# Altium integrated library Linear Technology Power Management System Supervisor, Monitor and Control.IntLib: 1611 symbols (part 2 of 100)
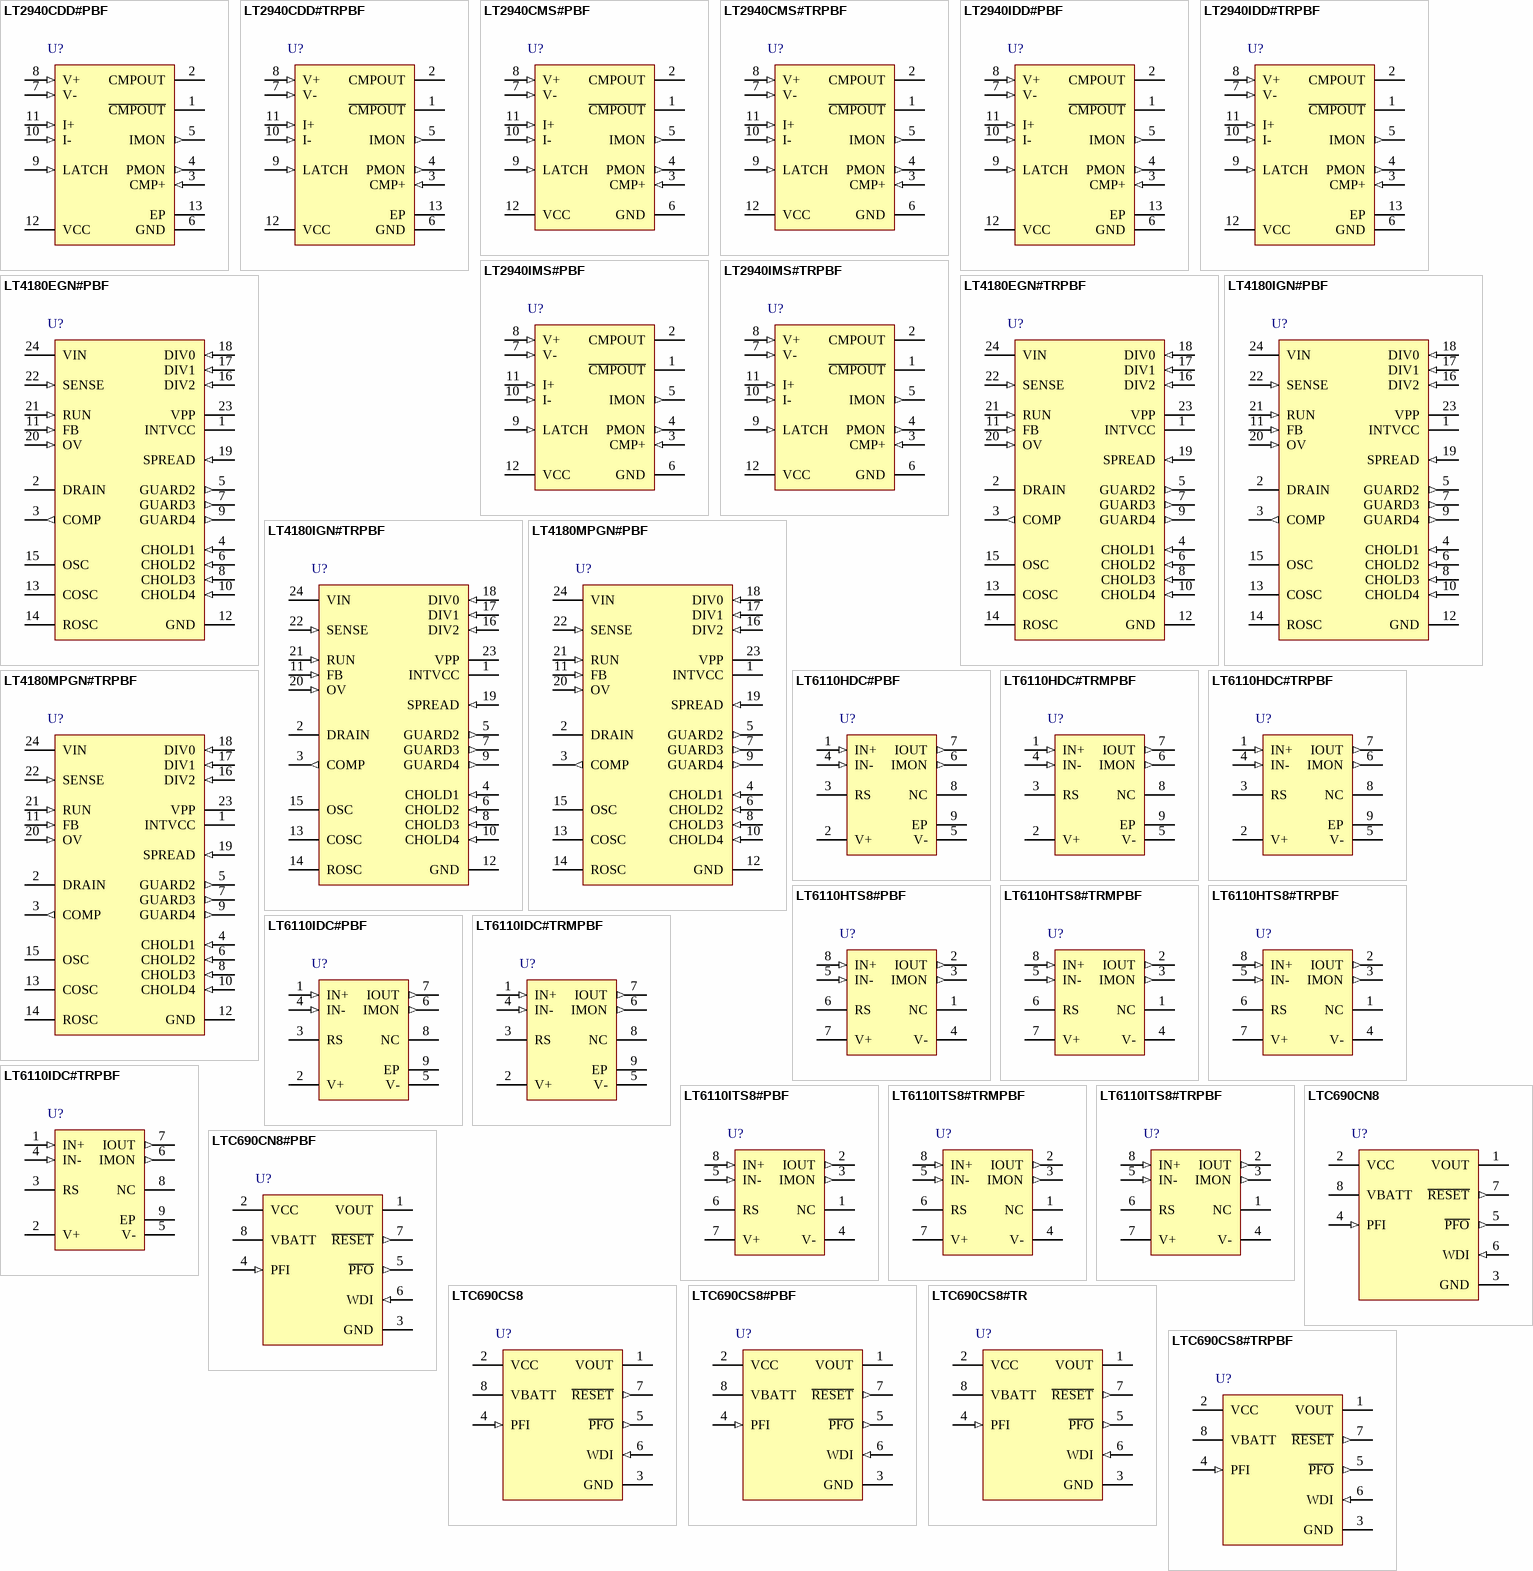
[diagram p46: symbols LT2940CDD#PBF to LTC690CS8#TRPBF]

## LT4180MPGN#PBF
designator U?
Virtual Remote Sense Controller, 24-pin SOP (GN24), -55 to 125 degC, Pb-Free; Manufacturer: Linear Technology; PartNumber: LT4180MPGN#PBF; Number of Supplies(#): 1; DatasheetVersion: Rev. B; PackageVersion: Rev. B, 03/2012; PackageReference: GN24; PackageDescription: 24-Pin Plastic SSOP , Body 8.5 x 3.9 mm, Pitch 0.635 mm; Supplier 1: Digi-Key; Supplier Part Number 1: LT4180MPGN#PBF-ND; Supplier 2: Farnell; Supplier Part Number 2: 1839078; Supplier 3: Newark; Supplier Part Number 3: 74R1378; RoHS: TRUE; Mounting Technology: Surface Mount; ComponentLink1Description: Manufacturer URL; ComponentLink1URL: http://www.linear.com/; ComponentLink2Description: Datasheet; ComponentLink2URL: http://cds.linear.com/docs/en/datasheet/4180fb.pdf; ComponentLink3Description: Package Specification; ComponentLink3URL: http://cds.linear.com/docs/en/packaging/05081641_B_GN24.pdf
footprint LT-GN-24_N (SOP, 24-Leads, Body 8.7x4mm, Pitch 0.635mm, IPC Medium Density)
footprint LT-GN-24_L (SOP, 24-Leads, Body 8.7x4mm, Pitch 0.635mm, IPC High Density)
footprint LT-GN-24_M (SOP, 24-Leads, Body 8.7x4mm, Pitch 0.635mm, IPC Low Density)
pins: 1 INTVCC (power) "The LDO Output. A low ESR ceramic capacitor provides decoupling and output compensation. 1uF or more should be used.", 2 DRAIN (oc) "Open-Drain of the Output Transistor. This pin drives either the LED in an opto-isolator, or pulls down on the regulator control pin.", 3 COMP (out) "Gate of the Output Transistor. This pin allows additional compensation. It must be left open if unused.", 4 CHOLD1 (in) "Connects to track/hold amplifier hold capacitor. The other end of this capacitor should be Kelvin connected to GND.", 5 GUARD2 (out) "Guard Ring Drive for CHOLD2.", 6 CHOLD2 (in) "Connects to track/hold amplifier hold capacitor. The other end of this capacitor should be Kelvin connected to GND.", 7 GUARD3 (out) "Guard Ring Drive for CHOLD3.", 8 CHOLD3 (in) "Connects to track/hold amplifier hold capacitor. The other end of this capacitor should be Kelvin connected to GND.", 9 GUARD4 (out) "Guard Ring Drive for CHOLD4.", 10 CHOLD4 (in) "Connects to track/hold amplifier hold capacitor. The other end of this capacitor should be Kelvin connected to GND.", 11 FB (in) "Receives the feedback voltage from an external resistor divider across the main output. An (optional) capacitor to ground may be added to eliminate high frequency noise. The time constant for this RC network should be no (See Datasheet)", 12 GND (power) "Ground.", 13 COSC "Oscillator Timing Capacitor. Oscillator frequency is set by this capacitor and ROSC. For best accuracy, the minimum recommended capacitance is 100pF.", 14 ROSC "Oscillator Timing Resistor. Oscillator frequency is set by this resistor and COSC.", 15 OSC "Oscillator Output. This output may be used to synchronize the switching regulator to the Virtual Remote Sense. This is a high current output capable of driving opto-isolators. Other isolation methods may also be used with (See Datasheet)", 16 DIV2 (in) "Dither Division Ratio Programming Pin.", 17 DIV1 (in) "Dither Division Ratio Programming Pin.", 18 DIV0 (in) "Dither Division Ratio Programming Pin.", 19 SPREAD (in) "Spread Spectrum Enable Input. Dither phasing is pseudo-randomly adjusted when SPREAD is tied high.", 20 OV (in) "Overvoltage Comparator Input. This prevents line drop correction when wiring drops would cause excessive switching power supply output voltage. Set OV so VREG(MAX) =< 1.50VLOAD.", 21 RUN (in) "The RUN pin provides the user with an accurate means for sensing the input voltage and programming the start-up threshold for the line drop corrector.", 22 SENSE (in) "Current Sense Input. This input connects to the current sense resistor. Kelvin connect to RSENSE.", 23 VPP (power) "Connect this pin to INTVCC.", 24 VIN (power) "Main Supply Pin. VIN must be locally bypassed to ground. Kelvin connect the current sense resistor to this pin and minimize interconnect resistance."

## LT4180MPGN#TRPBF
designator U?
Virtual Remote Sense Controller, 24-pin SOP (GN24), -55 to 125 degC, Pb-Free, Tape and Reel; Manufacturer: Linear Technology; PartNumber: LT4180MPGN#TRPBF; Number of Supplies(#): 1; DatasheetVersion: Rev. B; PackageVersion: Rev. B, 03/2012; PackageReference: GN24; PackageDescription: 24-Pin Plastic SSOP , Body 8.5 x 3.9 mm, Pitch 0.635 mm; Supplier 1: Digi-Key; Supplier Part Number 1: LT4180MPGN#TRPBF-ND; Packing: Tape and Reel; RoHS: TRUE; Mounting Technology: Surface Mount; ComponentLink1Description: Manufacturer URL; ComponentLink1URL: http://www.linear.com/; ComponentLink2Description: Datasheet; ComponentLink2URL: http://cds.linear.com/docs/en/datasheet/4180fb.pdf; ComponentLink3Description: Package Specification; ComponentLink3URL: http://cds.linear.com/docs/en/packaging/05081641_B_GN24.pdf
footprint LT-GN-24_N (SOP, 24-Leads, Body 8.7x4mm, Pitch 0.635mm, IPC Medium Density)
footprint LT-GN-24_L (SOP, 24-Leads, Body 8.7x4mm, Pitch 0.635mm, IPC High Density)
footprint LT-GN-24_M (SOP, 24-Leads, Body 8.7x4mm, Pitch 0.635mm, IPC Low Density)
pins: 1 INTVCC (power) "The LDO Output. A low ESR ceramic capacitor provides decoupling and output compensation. 1uF or more should be used.", 2 DRAIN (oc) "Open-Drain of the Output Transistor. This pin drives either the LED in an opto-isolator, or pulls down on the regulator control pin.", 3 COMP (out) "Gate of the Output Transistor. This pin allows additional compensation. It must be left open if unused.", 4 CHOLD1 (in) "Connects to track/hold amplifier hold capacitor. The other end of this capacitor should be Kelvin connected to GND.", 5 GUARD2 (out) "Guard Ring Drive for CHOLD2.", 6 CHOLD2 (in) "Connects to track/hold amplifier hold capacitor. The other end of this capacitor should be Kelvin connected to GND.", 7 GUARD3 (out) "Guard Ring Drive for CHOLD3.", 8 CHOLD3 (in) "Connects to track/hold amplifier hold capacitor. The other end of this capacitor should be Kelvin connected to GND.", 9 GUARD4 (out) "Guard Ring Drive for CHOLD4.", 10 CHOLD4 (in) "Connects to track/hold amplifier hold capacitor. The other end of this capacitor should be Kelvin connected to GND.", 11 FB (in) "Receives the feedback voltage from an external resistor divider across the main output. An (optional) capacitor to ground may be added to eliminate high frequency noise. The time constant for this RC network should be no (See Datasheet)", 12 GND (power) "Ground.", 13 COSC "Oscillator Timing Capacitor. Oscillator frequency is set by this capacitor and ROSC. For best accuracy, the minimum recommended capacitance is 100pF.", 14 ROSC "Oscillator Timing Resistor. Oscillator frequency is set by this resistor and COSC.", 15 OSC "Oscillator Output. This output may be used to synchronize the switching regulator to the Virtual Remote Sense. This is a high current output capable of driving opto-isolators. Other isolation methods may also be used with (See Datasheet)", 16 DIV2 (in) "Dither Division Ratio Programming Pin.", 17 DIV1 (in) "Dither Division Ratio Programming Pin.", 18 DIV0 (in) "Dither Division Ratio Programming Pin.", 19 SPREAD (in) "Spread Spectrum Enable Input. Dither phasing is pseudo-randomly adjusted when SPREAD is tied high.", 20 OV (in) "Overvoltage Comparator Input. This prevents line drop correction when wiring drops would cause excessive switching power supply output voltage. Set OV so VREG(MAX) =< 1.50VLOAD.", 21 RUN (in) "The RUN pin provides the user with an accurate means for sensing the input voltage and programming the start-up threshold for the line drop corrector.", 22 SENSE (in) "Current Sense Input. This input connects to the current sense resistor. Kelvin connect to RSENSE.", 23 VPP (power) "Connect this pin to INTVCC.", 24 VIN (power) "Main Supply Pin. VIN must be locally bypassed to ground. Kelvin connect the current sense resistor to this pin and minimize interconnect resistance."

## LT6110HDC#PBF
designator U?
Cable / Wire Drop Compensator, 8-pin SON (DC8-8), -40 to 125 degC, Pb-Free; Manufacturer: Linear Technology; PartNumber: LT6110HDC#PBF; Number of Supplies(#): 1; PackageVersion: Rev. A, 06/2010; PackageReference: DC8-8; PackageDescription: 8-Pin Plastic DFN, Body 2 x 2 mm, Pitch 0.45 mm; RoHS: TRUE; Mounting Technology: Surface Mount; ComponentLink1Description: Manufacturer URL; ComponentLink1URL: http://www.linear.com/; ComponentLink2Description: Datasheet; ComponentLink2URL: http://cds.linear.com/docs/en/datasheet/6110f.pdf; ComponentLink3Description: Package Specification; ComponentLink3URL: http://www.linear.com/docs/en/packaging/DFN_8_05-08-1719.pdf
footprint LT-DC8-8_V (SON, 8-Leads, Body 2x2mm, Pitch 0.45mm, Thermal Pad 1.37x0.64mm)
pins: 1 IN+ (in) "Positive Input to the Internal Sense Amplifier. The internal sense amplifier will drive +IN to the same potential as -IN. A resistor, R+IN, tied from V+ to +IN sets the IOUT and IMON output currents as defined in the the (See Datasheet)", 2 V+ (power) "Positive Power Supply. Connect to the more positive side of the sense resistor. A minimum capacitance of 0.1uF is required from V+ to V-.", 3 RS "Internal Sense Resistor. Connect to the load to use. Leave open when using an external sense resistor.", 4 IN- (in) "Negative Input to the Internal Sense Amplifier. Must be tied to system load side of the sense resistor, either directly or through a resistor.", 5 V- (power) "Negative Power Supply. Normally connected to ground.", 6 IMON (out) "Sourcing Current Output. IMON will source a current that is equal to 3xVSENSE/RIN.", 7 IOUT (out) "Sinking Current Output. IOUT will sink a current that is equal to VSENSE/RIN. VSENSE is the voltage developed across the sense resisor.", 8 NC "Not Internally Connected.", 9 EP (power) "V-. Must be soldered to the PCB."

## LT6110HDC#TRMPBF
designator U?
Cable / Wire Drop Compensator, 8-pin SON (DC8-8), -40 to 125 degC, Pb-Free, Mini Tape and Reel; Manufacturer: Linear Technology; PartNumber: LT6110HDC#TRMPBF; Number of Supplies(#): 1; PackageVersion: Rev. A, 06/2010; PackageReference: DC8-8; PackageDescription: 8-Pin Plastic DFN, Body 2 x 2 mm, Pitch 0.45 mm; Supplier 1: Digi-Key; Supplier Part Number 1: LT6110HDC#TRMPBFTR-ND; Supplier 2: Digi-Key; Supplier Part Number 2: LT6110HDC#TRMPBFCT-ND; Supplier 3: Digi-Key; Supplier Part Number 3: LT6110HDC#TRMPBFDKR-ND; Supplier 4: Farnell; Supplier Part Number 4: 2322383; Supplier 5: Newark; Supplier Part Number 5: 71W8573; Supplier 6: Newark; Supplier Part Number 6: 87W6209; Packing: Mini Tape and Reel; RoHS: TRUE; Mounting Technology: Surface Mount; ComponentLink1Description: Manufacturer URL; ComponentLink1URL: http://www.linear.com/; ComponentLink2Description: Datasheet; ComponentLink2URL: http://cds.linear.com/docs/en/datasheet/6110f.pdf; ComponentLink3Description: Package Specification; ComponentLink3URL: http://www.linear.com/docs/en/packaging/DFN_8_05-08-1719.pdf
footprint LT-DC8-8_V (SON, 8-Leads, Body 2x2mm, Pitch 0.45mm, Thermal Pad 1.37x0.64mm)
pins: 1 IN+ (in) "Positive Input to the Internal Sense Amplifier. The internal sense amplifier will drive +IN to the same potential as -IN. A resistor, R+IN, tied from V+ to +IN sets the IOUT and IMON output currents as defined in the the (See Datasheet)", 2 V+ (power) "Positive Power Supply. Connect to the more positive side of the sense resistor. A minimum capacitance of 0.1uF is required from V+ to V-.", 3 RS "Internal Sense Resistor. Connect to the load to use. Leave open when using an external sense resistor.", 4 IN- (in) "Negative Input to the Internal Sense Amplifier. Must be tied to system load side of the sense resistor, either directly or through a resistor.", 5 V- (power) "Negative Power Supply. Normally connected to ground.", 6 IMON (out) "Sourcing Current Output. IMON will source a current that is equal to 3xVSENSE/RIN.", 7 IOUT (out) "Sinking Current Output. IOUT will sink a current that is equal to VSENSE/RIN. VSENSE is the voltage developed across the sense resisor.", 8 NC "Not Internally Connected.", 9 EP (power) "V-. Must be soldered to the PCB."

## LT6110HDC#TRPBF
designator U?
Cable / Wire Drop Compensator, 8-pin SON (DC8-8), -40 to 125 degC, Pb-Free, Tape and Reel; Manufacturer: Linear Technology; PartNumber: LT6110HDC#TRPBF; Number of Supplies(#): 1; PackageVersion: Rev. A, 06/2010; PackageReference: DC8-8; PackageDescription: 8-Pin Plastic DFN, Body 2 x 2 mm, Pitch 0.45 mm; Supplier 1: Digi-Key; Supplier Part Number 1: LT6110HDC#TRPBF-ND; Supplier 2: Newark; Supplier Part Number 2: 71W8574; Supplier 3: Newark; Supplier Part Number 3: 87W6210; Packing: Tape and Reel; RoHS: TRUE; Mounting Technology: Surface Mount; ComponentLink1Description: Manufacturer URL; ComponentLink1URL: http://www.linear.com/; ComponentLink2Description: Datasheet; ComponentLink2URL: http://cds.linear.com/docs/en/datasheet/6110f.pdf; ComponentLink3Description: Package Specification; ComponentLink3URL: http://www.linear.com/docs/en/packaging/DFN_8_05-08-1719.pdf
footprint LT-DC8-8_V (SON, 8-Leads, Body 2x2mm, Pitch 0.45mm, Thermal Pad 1.37x0.64mm)
pins: 1 IN+ (in) "Positive Input to the Internal Sense Amplifier. The internal sense amplifier will drive +IN to the same potential as -IN. A resistor, R+IN, tied from V+ to +IN sets the IOUT and IMON output currents as defined in the the (See Datasheet)", 2 V+ (power) "Positive Power Supply. Connect to the more positive side of the sense resistor. A minimum capacitance of 0.1uF is required from V+ to V-.", 3 RS "Internal Sense Resistor. Connect to the load to use. Leave open when using an external sense resistor.", 4 IN- (in) "Negative Input to the Internal Sense Amplifier. Must be tied to system load side of the sense resistor, either directly or through a resistor.", 5 V- (power) "Negative Power Supply. Normally connected to ground.", 6 IMON (out) "Sourcing Current Output. IMON will source a current that is equal to 3xVSENSE/RIN.", 7 IOUT (out) "Sinking Current Output. IOUT will sink a current that is equal to VSENSE/RIN. VSENSE is the voltage developed across the sense resisor.", 8 NC "Not Internally Connected.", 9 EP (power) "V-. Must be soldered to the PCB."

## LT6110HTS8#PBF
designator U?
Cable / Wire Drop Compensator, 8-pin SOT23 (TS8-8), -40 to 125 degC, Pb-Free; Manufacturer: Linear Technology; PartNumber: LT6110HTS8#PBF; Number of Supplies(#): 1; PackageVersion: Rev. A, 08/2010; PackageReference: TS8-8; PackageDescription: 8-Pin Plastic TSOT-23, Body 2.9 x 1.63 mm, Pitch 0.65 mm; RoHS: TRUE; Mounting Technology: Surface Mount; Code_JEDEC: MO-193; ComponentLink1Description: Manufacturer URL; ComponentLink1URL: http://www.linear.com/; ComponentLink2Description: Datasheet; ComponentLink2URL: http://cds.linear.com/docs/en/datasheet/6110f.pdf; ComponentLink3Description: Package Specification; ComponentLink3URL: http://cds.linear.com/docs/en/packaging/SOT_8_05-08-1637.pdf
footprint LT-TS8-8-TSOT-23_V (SOT23, 8-Leads, Body 2.9x1.75mm, Pitch 0.65mm)
pins: 1 NC "Not Internally Connected.", 2 IOUT (out) "Sinking Current Output. IOUT will sink a current that is equal to VSENSE/RIN. VSENSE is the voltage developed across the sense resisor.", 3 IMON (out) "Sourcing Current Output. IMON will source a current that is equal to 3xVSENSE/RIN.", 4 V- (power) "Negative Power Supply. Normally connected to ground.", 5 IN- (in) "Negative Input to the Internal Sense Amplifier. Must be tied to system load side of the sense resistor, either directly or through a resistor.", 6 RS "Internal Sense Resistor. Connect to the load to use. Leave open when using an external sense resistor.", 7 V+ (power) "Positive Power Supply. Connect to the more positive side of the sense resistor. A minimum capacitance of 0.1uF is required from V+ to V-.", 8 IN+ (in) "Positive Input to the Internal Sense Amplifier. The internal sense amplifier will drive +IN to the same potential as -IN. A resistor, R+IN, tied from V+ to +IN sets the IOUT and IMON output currents as defined in the the (See Datasheet)"

## LT6110HTS8#TRMPBF
designator U?
Cable / Wire Drop Compensator, 8-pin SOT23 (TS8-8), -40 to 125 degC, Pb-Free, Mini Tape and Reel; Manufacturer: Linear Technology; PartNumber: LT6110HTS8#TRMPBF; Number of Supplies(#): 1; PackageVersion: Rev. A, 08/2010; PackageReference: TS8-8; PackageDescription: 8-Pin Plastic TSOT-23, Body 2.9 x 1.63 mm, Pitch 0.65 mm; Supplier 1: Digi-Key; Supplier Part Number 1: LT6110HTS8#TRMPBFTR-ND; Supplier 2: Digi-Key; Supplier Part Number 2: LT6110HTS8#TRMPBFCT-ND; Supplier 3: Digi-Key; Supplier Part Number 3: LT6110HTS8#TRMPBFDKR-ND; Supplier 4: Farnell; Supplier Part Number 4: 2322384; Supplier 5: Newark; Supplier Part Number 5: 71W8575; Supplier 6: Newark; Supplier Part Number 6: 87W6211; Packing: Mini Tape and Reel; RoHS: TRUE; Mounting Technology: Surface Mount; Code_JEDEC: MO-193; ComponentLink1Description: Manufacturer URL; ComponentLink1URL: http://www.linear.com/; ComponentLink2Description: Datasheet; ComponentLink2URL: http://cds.linear.com/docs/en/datasheet/6110f.pdf; ComponentLink3Description: Package Specification; ComponentLink3URL: http://cds.linear.com/docs/en/packaging/SOT_8_05-08-1637.pdf
footprint LT-TS8-8-TSOT-23_V (SOT23, 8-Leads, Body 2.9x1.75mm, Pitch 0.65mm)
pins: 1 NC "Not Internally Connected.", 2 IOUT (out) "Sinking Current Output. IOUT will sink a current that is equal to VSENSE/RIN. VSENSE is the voltage developed across the sense resisor.", 3 IMON (out) "Sourcing Current Output. IMON will source a current that is equal to 3xVSENSE/RIN.", 4 V- (power) "Negative Power Supply. Normally connected to ground.", 5 IN- (in) "Negative Input to the Internal Sense Amplifier. Must be tied to system load side of the sense resistor, either directly or through a resistor.", 6 RS "Internal Sense Resistor. Connect to the load to use. Leave open when using an external sense resistor.", 7 V+ (power) "Positive Power Supply. Connect to the more positive side of the sense resistor. A minimum capacitance of 0.1uF is required from V+ to V-.", 8 IN+ (in) "Positive Input to the Internal Sense Amplifier. The internal sense amplifier will drive +IN to the same potential as -IN. A resistor, R+IN, tied from V+ to +IN sets the IOUT and IMON output currents as defined in the the (See Datasheet)"

## LT6110HTS8#TRPBF
designator U?
Cable / Wire Drop Compensator, 8-pin SOT23 (TS8-8), -40 to 125 degC, Pb-Free, Tape and Reel; Manufacturer: Linear Technology; PartNumber: LT6110HTS8#TRPBF; Number of Supplies(#): 1; PackageVersion: Rev. A, 08/2010; PackageReference: TS8-8; PackageDescription: 8-Pin Plastic TSOT-23, Body 2.9 x 1.63 mm, Pitch 0.65 mm; Supplier 1: Digi-Key; Supplier Part Number 1: LT6110HTS8#TRPBF-ND; Supplier 2: Newark; Supplier Part Number 2: 87W6212; Supplier 3: Newark; Supplier Part Number 3: 71W8576; Packing: Tape and Reel; RoHS: TRUE; Mounting Technology: Surface Mount; Code_JEDEC: MO-193; ComponentLink1Description: Manufacturer URL; ComponentLink1URL: http://www.linear.com/; ComponentLink2Description: Datasheet; ComponentLink2URL: http://cds.linear.com/docs/en/datasheet/6110f.pdf; ComponentLink3Description: Package Specification; ComponentLink3URL: http://cds.linear.com/docs/en/packaging/SOT_8_05-08-1637.pdf
footprint LT-TS8-8-TSOT-23_V (SOT23, 8-Leads, Body 2.9x1.75mm, Pitch 0.65mm)
pins: 1 NC "Not Internally Connected.", 2 IOUT (out) "Sinking Current Output. IOUT will sink a current that is equal to VSENSE/RIN. VSENSE is the voltage developed across the sense resisor.", 3 IMON (out) "Sourcing Current Output. IMON will source a current that is equal to 3xVSENSE/RIN.", 4 V- (power) "Negative Power Supply. Normally connected to ground.", 5 IN- (in) "Negative Input to the Internal Sense Amplifier. Must be tied to system load side of the sense resistor, either directly or through a resistor.", 6 RS "Internal Sense Resistor. Connect to the load to use. Leave open when using an external sense resistor.", 7 V+ (power) "Positive Power Supply. Connect to the more positive side of the sense resistor. A minimum capacitance of 0.1uF is required from V+ to V-.", 8 IN+ (in) "Positive Input to the Internal Sense Amplifier. The internal sense amplifier will drive +IN to the same potential as -IN. A resistor, R+IN, tied from V+ to +IN sets the IOUT and IMON output currents as defined in the the (See Datasheet)"

## LT6110IDC#PBF
designator U?
Cable / Wire Drop Compensator, 8-pin SON (DC8-8), -40 to 85 degC, Pb-Free; Manufacturer: Linear Technology; PartNumber: LT6110IDC#PBF; Number of Supplies(#): 1; PackageVersion: Rev. A, 06/2010; PackageReference: DC8-8; PackageDescription: 8-Pin Plastic DFN, Body 2 x 2 mm, Pitch 0.45 mm; RoHS: TRUE; Mounting Technology: Surface Mount; ComponentLink1Description: Manufacturer URL; ComponentLink1URL: http://www.linear.com/; ComponentLink2Description: Datasheet; ComponentLink2URL: http://cds.linear.com/docs/en/datasheet/6110f.pdf; ComponentLink3Description: Package Specification; ComponentLink3URL: http://www.linear.com/docs/en/packaging/DFN_8_05-08-1719.pdf
footprint LT-DC8-8_V (SON, 8-Leads, Body 2x2mm, Pitch 0.45mm, Thermal Pad 1.37x0.64mm)
pins: 1 IN+ (in) "Positive Input to the Internal Sense Amplifier. The internal sense amplifier will drive +IN to the same potential as -IN. A resistor, R+IN, tied from V+ to +IN sets the IOUT and IMON output currents as defined in the the (See Datasheet)", 2 V+ (power) "Positive Power Supply. Connect to the more positive side of the sense resistor. A minimum capacitance of 0.1uF is required from V+ to V-.", 3 RS "Internal Sense Resistor. Connect to the load to use. Leave open when using an external sense resistor.", 4 IN- (in) "Negative Input to the Internal Sense Amplifier. Must be tied to system load side of the sense resistor, either directly or through a resistor.", 5 V- (power) "Negative Power Supply. Normally connected to ground.", 6 IMON (out) "Sourcing Current Output. IMON will source a current that is equal to 3xVSENSE/RIN.", 7 IOUT (out) "Sinking Current Output. IOUT will sink a current that is equal to VSENSE/RIN. VSENSE is the voltage developed across the sense resisor.", 8 NC "Not Internally Connected.", 9 EP (power) "V-. Must be soldered to the PCB."

## LT6110IDC#TRMPBF
designator U?
Cable / Wire Drop Compensator, 8-pin SON (DC8-8), -40 to 85 degC, Pb-Free, Mini Tape and Reel; Manufacturer: Linear Technology; PartNumber: LT6110IDC#TRMPBF; Number of Supplies(#): 1; PackageVersion: Rev. A, 06/2010; PackageReference: DC8-8; PackageDescription: 8-Pin Plastic DFN, Body 2 x 2 mm, Pitch 0.45 mm; Supplier 1: Digi-Key; Supplier Part Number 1: LT6110IDC#TRMPBFTR-ND; Supplier 2: Digi-Key; Supplier Part Number 2: LT6110IDC#TRMPBFCT-ND; Supplier 3: Digi-Key; Supplier Part Number 3: LT6110IDC#TRMPBFDKR-ND; Supplier 4: Farnell; Supplier Part Number 4: 2322385; Supplier 5: Newark; Supplier Part Number 5: 87W6213; Supplier 6: Newark; Supplier Part Number 6: 71W8577; Packing: Mini Tape and Reel; RoHS: TRUE; Mounting Technology: Surface Mount; ComponentLink1Description: Manufacturer URL; ComponentLink1URL: http://www.linear.com/; ComponentLink2Description: Datasheet; ComponentLink2URL: http://cds.linear.com/docs/en/datasheet/6110f.pdf; ComponentLink3Description: Package Specification; ComponentLink3URL: http://www.linear.com/docs/en/packaging/DFN_8_05-08-1719.pdf
footprint LT-DC8-8_V (SON, 8-Leads, Body 2x2mm, Pitch 0.45mm, Thermal Pad 1.37x0.64mm)
pins: 1 IN+ (in) "Positive Input to the Internal Sense Amplifier. The internal sense amplifier will drive +IN to the same potential as -IN. A resistor, R+IN, tied from V+ to +IN sets the IOUT and IMON output currents as defined in the the (See Datasheet)", 2 V+ (power) "Positive Power Supply. Connect to the more positive side of the sense resistor. A minimum capacitance of 0.1uF is required from V+ to V-.", 3 RS "Internal Sense Resistor. Connect to the load to use. Leave open when using an external sense resistor.", 4 IN- (in) "Negative Input to the Internal Sense Amplifier. Must be tied to system load side of the sense resistor, either directly or through a resistor.", 5 V- (power) "Negative Power Supply. Normally connected to ground.", 6 IMON (out) "Sourcing Current Output. IMON will source a current that is equal to 3xVSENSE/RIN.", 7 IOUT (out) "Sinking Current Output. IOUT will sink a current that is equal to VSENSE/RIN. VSENSE is the voltage developed across the sense resisor.", 8 NC "Not Internally Connected.", 9 EP (power) "V-. Must be soldered to the PCB."

## LT6110IDC#TRPBF
designator U?
Cable / Wire Drop Compensator, 8-pin SON (DC8-8), -40 to 85 degC, Pb-Free, Tape and Reel; Manufacturer: Linear Technology; PartNumber: LT6110IDC#TRPBF; Number of Supplies(#): 1; PackageVersion: Rev. A, 06/2010; PackageReference: DC8-8; PackageDescription: 8-Pin Plastic DFN, Body 2 x 2 mm, Pitch 0.45 mm; Supplier 1: Digi-Key; Supplier Part Number 1: LT6110IDC#TRPBF-ND; Supplier 2: Newark; Supplier Part Number 2: 87W6214; Supplier 3: Newark; Supplier Part Number 3: 71W8578; Packing: Tape and Reel; RoHS: TRUE; Mounting Technology: Surface Mount; ComponentLink1Description: Manufacturer URL; ComponentLink1URL: http://www.linear.com/; ComponentLink2Description: Datasheet; ComponentLink2URL: http://cds.linear.com/docs/en/datasheet/6110f.pdf; ComponentLink3Description: Package Specification; ComponentLink3URL: http://www.linear.com/docs/en/packaging/DFN_8_05-08-1719.pdf
footprint LT-DC8-8_V (SON, 8-Leads, Body 2x2mm, Pitch 0.45mm, Thermal Pad 1.37x0.64mm)
pins: 1 IN+ (in) "Positive Input to the Internal Sense Amplifier. The internal sense amplifier will drive +IN to the same potential as -IN. A resistor, R+IN, tied from V+ to +IN sets the IOUT and IMON output currents as defined in the the (See Datasheet)", 2 V+ (power) "Positive Power Supply. Connect to the more positive side of the sense resistor. A minimum capacitance of 0.1uF is required from V+ to V-.", 3 RS "Internal Sense Resistor. Connect to the load to use. Leave open when using an external sense resistor.", 4 IN- (in) "Negative Input to the Internal Sense Amplifier. Must be tied to system load side of the sense resistor, either directly or through a resistor.", 5 V- (power) "Negative Power Supply. Normally connected to ground.", 6 IMON (out) "Sourcing Current Output. IMON will source a current that is equal to 3xVSENSE/RIN.", 7 IOUT (out) "Sinking Current Output. IOUT will sink a current that is equal to VSENSE/RIN. VSENSE is the voltage developed across the sense resisor.", 8 NC "Not Internally Connected.", 9 EP (power) "V-. Must be soldered to the PCB."

## LT6110ITS8#PBF
designator U?
Cable / Wire Drop Compensator, 8-pin SOT23 (TS8-8), -40 to 85 degC, Pb-Free; Manufacturer: Linear Technology; PartNumber: LT6110ITS8#PBF; Number of Supplies(#): 1; PackageVersion: Rev. A, 08/2010; PackageReference: TS8-8; PackageDescription: 8-Pin Plastic TSOT-23, Body 2.9 x 1.63 mm, Pitch 0.65 mm; RoHS: TRUE; Mounting Technology: Surface Mount; Code_JEDEC: MO-193; ComponentLink1Description: Manufacturer URL; ComponentLink1URL: http://www.linear.com/; ComponentLink2Description: Datasheet; ComponentLink2URL: http://cds.linear.com/docs/en/datasheet/6110f.pdf; ComponentLink3Description: Package Specification; ComponentLink3URL: http://cds.linear.com/docs/en/packaging/SOT_8_05-08-1637.pdf
footprint LT-TS8-8-TSOT-23_V (SOT23, 8-Leads, Body 2.9x1.75mm, Pitch 0.65mm)
pins: 1 NC "Not Internally Connected.", 2 IOUT (out) "Sinking Current Output. IOUT will sink a current that is equal to VSENSE/RIN. VSENSE is the voltage developed across the sense resisor.", 3 IMON (out) "Sourcing Current Output. IMON will source a current that is equal to 3xVSENSE/RIN.", 4 V- (power) "Negative Power Supply. Normally connected to ground.", 5 IN- (in) "Negative Input to the Internal Sense Amplifier. Must be tied to system load side of the sense resistor, either directly or through a resistor.", 6 RS "Internal Sense Resistor. Connect to the load to use. Leave open when using an external sense resistor.", 7 V+ (power) "Positive Power Supply. Connect to the more positive side of the sense resistor. A minimum capacitance of 0.1uF is required from V+ to V-.", 8 IN+ (in) "Positive Input to the Internal Sense Amplifier. The internal sense amplifier will drive +IN to the same potential as -IN. A resistor, R+IN, tied from V+ to +IN sets the IOUT and IMON output currents as defined in the the (See Datasheet)"

## LT6110ITS8#TRMPBF
designator U?
Cable / Wire Drop Compensator, 8-pin SOT23 (TS8-8), -40 to 85 degC, Pb-Free, Mini Tape and Reel; Manufacturer: Linear Technology; PartNumber: LT6110ITS8#TRMPBF; Number of Supplies(#): 1; PackageVersion: Rev. A, 08/2010; PackageReference: TS8-8; PackageDescription: 8-Pin Plastic TSOT-23, Body 2.9 x 1.63 mm, Pitch 0.65 mm; Supplier 1: Digi-Key; Supplier Part Number 1: LT6110ITS8#TRMPBFTR-ND; Supplier 2: Digi-Key; Supplier Part Number 2: LT6110ITS8#TRMPBFCT-ND; Supplier 3: Digi-Key; Supplier Part Number 3: LT6110ITS8#TRMPBFDKR-ND; Supplier 4: Farnell; Supplier Part Number 4: 2322386; Supplier 5: Newark; Supplier Part Number 5: 87W6215; Supplier 6: Newark; Supplier Part Number 6: 71W8579; Packing: Mini Tape and Reel; RoHS: TRUE; Mounting Technology: Surface Mount; Code_JEDEC: MO-193; ComponentLink1Description: Manufacturer URL; ComponentLink1URL: http://www.linear.com/; ComponentLink2Description: Datasheet; ComponentLink2URL: http://cds.linear.com/docs/en/datasheet/6110f.pdf; ComponentLink3Description: Package Specification; ComponentLink3URL: http://cds.linear.com/docs/en/packaging/SOT_8_05-08-1637.pdf
footprint LT-TS8-8-TSOT-23_V (SOT23, 8-Leads, Body 2.9x1.75mm, Pitch 0.65mm)
pins: 1 NC "Not Internally Connected.", 2 IOUT (out) "Sinking Current Output. IOUT will sink a current that is equal to VSENSE/RIN. VSENSE is the voltage developed across the sense resisor.", 3 IMON (out) "Sourcing Current Output. IMON will source a current that is equal to 3xVSENSE/RIN.", 4 V- (power) "Negative Power Supply. Normally connected to ground.", 5 IN- (in) "Negative Input to the Internal Sense Amplifier. Must be tied to system load side of the sense resistor, either directly or through a resistor.", 6 RS "Internal Sense Resistor. Connect to the load to use. Leave open when using an external sense resistor.", 7 V+ (power) "Positive Power Supply. Connect to the more positive side of the sense resistor. A minimum capacitance of 0.1uF is required from V+ to V-.", 8 IN+ (in) "Positive Input to the Internal Sense Amplifier. The internal sense amplifier will drive +IN to the same potential as -IN. A resistor, R+IN, tied from V+ to +IN sets the IOUT and IMON output currents as defined in the the (See Datasheet)"

## LT6110ITS8#TRPBF
designator U?
Cable / Wire Drop Compensator, 8-pin SOT23 (TS8-8), -40 to 85 degC, Pb-Free, Tape and Reel; Manufacturer: Linear Technology; PartNumber: LT6110ITS8#TRPBF; Number of Supplies(#): 1; PackageVersion: Rev. A, 08/2010; PackageReference: TS8-8; PackageDescription: 8-Pin Plastic TSOT-23, Body 2.9 x 1.63 mm, Pitch 0.65 mm; Supplier 1: Digi-Key; Supplier Part Number 1: LT6110ITS8#TRPBF-ND; Supplier 2: Newark; Supplier Part Number 2: 87W6216; Supplier 3: Newark; Supplier Part Number 3: 71W8580; Packing: Tape and Reel; RoHS: TRUE; Mounting Technology: Surface Mount; Code_JEDEC: MO-193; ComponentLink1Description: Manufacturer URL; ComponentLink1URL: http://www.linear.com/; ComponentLink2Description: Datasheet; ComponentLink2URL: http://cds.linear.com/docs/en/datasheet/6110f.pdf; ComponentLink3Description: Package Specification; ComponentLink3URL: http://cds.linear.com/docs/en/packaging/SOT_8_05-08-1637.pdf
footprint LT-TS8-8-TSOT-23_V (SOT23, 8-Leads, Body 2.9x1.75mm, Pitch 0.65mm)
pins: 1 NC "Not Internally Connected.", 2 IOUT (out) "Sinking Current Output. IOUT will sink a current that is equal to VSENSE/RIN. VSENSE is the voltage developed across the sense resisor.", 3 IMON (out) "Sourcing Current Output. IMON will source a current that is equal to 3xVSENSE/RIN.", 4 V- (power) "Negative Power Supply. Normally connected to ground.", 5 IN- (in) "Negative Input to the Internal Sense Amplifier. Must be tied to system load side of the sense resistor, either directly or through a resistor.", 6 RS "Internal Sense Resistor. Connect to the load to use. Leave open when using an external sense resistor.", 7 V+ (power) "Positive Power Supply. Connect to the more positive side of the sense resistor. A minimum capacitance of 0.1uF is required from V+ to V-.", 8 IN+ (in) "Positive Input to the Internal Sense Amplifier. The internal sense amplifier will drive +IN to the same potential as -IN. A resistor, R+IN, tied from V+ to +IN sets the IOUT and IMON output currents as defined in the the (See Datasheet)"

## LTC690CN8
designator U?
UL Recognized Battery Backup, 8-pin DIP (N8-8), 0 to 70 degC; Manufacturer: Linear Technology; PartNumber: LTC690CN8; Number of Supplies(#): 1; DatasheetVersion: Rev. F; PackageVersion: Rev. I, 07/2011; PackageReference: N8-8; PackageDescription: 8-Pin PDIP, Body 10.16 x 6.48 mm, Pitch 2.54 mm; Supplier 1: Digi-Key; Supplier Part Number 1: LTC690CN8-ND; Supplier 2: Newark; Supplier Part Number 2: 57M0144; RoHS: FALSE; Mounting Technology: Through Hole; ComponentLink1Description: Manufacturer URL; ComponentLink1URL: http://www.linear.com/; ComponentLink2Description: Datasheet; ComponentLink2URL: http://cds.linear.com/docs/en/datasheet/690ff.pdf; ComponentLink3Description: Package Specification; ComponentLink3URL: http://www.linear.com/docs/en/packaging/05081510_I_N8.pdf
footprint LT-N8-8 (DIP, 8-Leads, Body 10.15x6.85mm, Pitch 2.54mm)
pins: 1 VOUT (power) "Voltage Output for Backed Up Memory. Bypass with a capacitor of 0.1uF or greater. During normal operation, VOUT obtains power from VCC through an NMOS power switch, M1, which can deliver up to 50mA and has a typical on (See Datasheet)", 2 VCC (power), 3 GND (power) "Ground pin.", 4 PFI (in) "Power Failure Input. PFI is the noninverting input to the power-fail comparator, C3. The inverting input is internally connected to a 1.3V reference. The power failure output remains high when PFI is above 1.3V and goes low (See Datasheet)", 5 ~{PFO} (out) "Power Failure Output from C3. P\F\O\ remains high when PFI is above 1.3V and goes low when PFI is below 1.3V. When VCC is lower than VBATT, C3 is shut down and P\F\O\ is forced low.", 6 WDI (in) "Watchdog Input, WDI, is a three level input. Driving WDI either high or low for longer than the watchdog timeout period, forces both R\E\S\E\T\ and W\D\O\ low. Floating WDI disables the watchdog timer. The timer resets (See Datasheet)", 7 ~{RESET} (out), 8 VBATT (power) "Back-Up Battery Input. When VCC falls below VBATT, auxiliary power, connected to VBATT, is delivered to VOUT through PMOS switch, M2. If back-up battery or auxiliary power is not used, VBATT should be connected to GND."

## LTC690CN8#PBF
designator U?
UL Recognized Battery Backup, 8-pin DIP (N8-8), 0 to 70 degC, Pb-Free; Manufacturer: Linear Technology; PartNumber: LTC690CN8#PBF; Number of Supplies(#): 1; DatasheetVersion: Rev. F; PackageVersion: Rev. I, 07/2011; PackageReference: N8-8; PackageDescription: 8-Pin PDIP, Body 10.16 x 6.48 mm, Pitch 2.54 mm; Supplier 1: Digi-Key; Supplier Part Number 1: LTC690CN8#PBF-ND; Supplier 2: Newark; Supplier Part Number 2: 57M0145; RoHS: TRUE; Mounting Technology: Through Hole; ComponentLink1Description: Manufacturer URL; ComponentLink1URL: http://www.linear.com/; ComponentLink2Description: Datasheet; ComponentLink2URL: http://cds.linear.com/docs/en/datasheet/690ff.pdf; ComponentLink3Description: Package Specification; ComponentLink3URL: http://www.linear.com/docs/en/packaging/05081510_I_N8.pdf
footprint LT-N8-8 (DIP, 8-Leads, Body 10.15x6.85mm, Pitch 2.54mm)
pins: 1 VOUT (power) "Voltage Output for Backed Up Memory. Bypass with a capacitor of 0.1uF or greater. During normal operation, VOUT obtains power from VCC through an NMOS power switch, M1, which can deliver up to 50mA and has a typical on (See Datasheet)", 2 VCC (power), 3 GND (power) "Ground pin.", 4 PFI (in) "Power Failure Input. PFI is the noninverting input to the power-fail comparator, C3. The inverting input is internally connected to a 1.3V reference. The power failure output remains high when PFI is above 1.3V and goes low (See Datasheet)", 5 ~{PFO} (out) "Power Failure Output from C3. P\F\O\ remains high when PFI is above 1.3V and goes low when PFI is below 1.3V. When VCC is lower than VBATT, C3 is shut down and P\F\O\ is forced low.", 6 WDI (in) "Watchdog Input, WDI, is a three level input. Driving WDI either high or low for longer than the watchdog timeout period, forces both R\E\S\E\T\ and W\D\O\ low. Floating WDI disables the watchdog timer. The timer resets (See Datasheet)", 7 ~{RESET} (out), 8 VBATT (power) "Back-Up Battery Input. When VCC falls below VBATT, auxiliary power, connected to VBATT, is delivered to VOUT through PMOS switch, M2. If back-up battery or auxiliary power is not used, VBATT should be connected to GND."

## LTC690CS8
designator U?
UL Recognized Battery Backup, 8-pin SOIC (S8-8), 0 to 70 degC; Manufacturer: Linear Technology; PartNumber: LTC690CS8; Number of Supplies(#): 1; DatasheetVersion: Rev. F; PackageVersion: Rev. G, 03/2012; PackageReference: S8-8; PackageDescription: 8-Pin Plastic Small Outline (Narrow .150 Inch), Body 4.9 x 3.9 mm, Pitch 1.27 mm; Supplier 1: Digi-Key; Supplier Part Number 1: LTC690CS8-ND; Supplier 2: Newark; Supplier Part Number 2: 57M0146; RoHS: FALSE; Mounting Technology: Surface Mount; ComponentLink1Description: Manufacturer URL; ComponentLink1URL: http://www.linear.com/; ComponentLink2Description: Datasheet; ComponentLink2URL: http://cds.linear.com/docs/en/datasheet/690ff.pdf; ComponentLink3Description: Package Specification; ComponentLink3URL: http://cds.linear.com/docs/en/packaging/05081610_G_SO8.pdf
footprint LT-S8-8_N (SOIC, 8-Leads, Body 5x4mm, Pitch 1.27mm, IPC Medium Density)
footprint LT-S8-8_L (SOIC, 8-Leads, Body 5x4mm, Pitch 1.27mm, IPC High Density)
footprint LT-S8-8_M (SOIC, 8-Leads, Body 5x4mm, Pitch 1.27mm, IPC Low Density)
pins: 1 VOUT (power) "Voltage Output for Backed Up Memory. Bypass with a capacitor of 0.1uF or greater. During normal operation, VOUT obtains power from VCC through an NMOS power switch, M1, which can deliver up to 50mA and has a typical on (See Datasheet)", 2 VCC (power), 3 GND (power) "Ground pin.", 4 PFI (in) "Power Failure Input. PFI is the noninverting input to the power-fail comparator, C3. The inverting input is internally connected to a 1.3V reference. The power failure output remains high when PFI is above 1.3V and goes low (See Datasheet)", 5 ~{PFO} (out) "Power Failure Output from C3. P\F\O\ remains high when PFI is above 1.3V and goes low when PFI is below 1.3V. When VCC is lower than VBATT, C3 is shut down and P\F\O\ is forced low.", 6 WDI (in) "Watchdog Input, WDI, is a three level input. Driving WDI either high or low for longer than the watchdog timeout period, forces both R\E\S\E\T\ and W\D\O\ low. Floating WDI disables the watchdog timer. The timer resets (See Datasheet)", 7 ~{RESET} (out), 8 VBATT (power) "Back-Up Battery Input. When VCC falls below VBATT, auxiliary power, connected to VBATT, is delivered to VOUT through PMOS switch, M2. If back-up battery or auxiliary power is not used, VBATT should be connected to GND."

## LTC690CS8#PBF
designator U?
UL Recognized Battery Backup, 8-pin SOIC (S8-8), 0 to 70 degC, Pb-Free; Manufacturer: Linear Technology; PartNumber: LTC690CS8#PBF; Number of Supplies(#): 1; DatasheetVersion: Rev. F; PackageVersion: Rev. G, 03/2012; PackageReference: S8-8; PackageDescription: 8-Pin Plastic Small Outline (Narrow .150 Inch), Body 4.9 x 3.9 mm, Pitch 1.27 mm; Supplier 1: Digi-Key; Supplier Part Number 1: LTC690CS8#PBF-ND; Supplier 2: Farnell; Supplier Part Number 2: 2295462; Supplier 3: Newark; Supplier Part Number 3: 57M0147; RoHS: TRUE; Mounting Technology: Surface Mount; ComponentLink1Description: Manufacturer URL; ComponentLink1URL: http://www.linear.com/; ComponentLink2Description: Datasheet; ComponentLink2URL: http://cds.linear.com/docs/en/datasheet/690ff.pdf; ComponentLink3Description: Package Specification; ComponentLink3URL: http://cds.linear.com/docs/en/packaging/05081610_G_SO8.pdf
footprint LT-S8-8_N (SOIC, 8-Leads, Body 5x4mm, Pitch 1.27mm, IPC Medium Density)
footprint LT-S8-8_L (SOIC, 8-Leads, Body 5x4mm, Pitch 1.27mm, IPC High Density)
footprint LT-S8-8_M (SOIC, 8-Leads, Body 5x4mm, Pitch 1.27mm, IPC Low Density)
pins: 1 VOUT (power) "Voltage Output for Backed Up Memory. Bypass with a capacitor of 0.1uF or greater. During normal operation, VOUT obtains power from VCC through an NMOS power switch, M1, which can deliver up to 50mA and has a typical on (See Datasheet)", 2 VCC (power), 3 GND (power) "Ground pin.", 4 PFI (in) "Power Failure Input. PFI is the noninverting input to the power-fail comparator, C3. The inverting input is internally connected to a 1.3V reference. The power failure output remains high when PFI is above 1.3V and goes low (See Datasheet)", 5 ~{PFO} (out) "Power Failure Output from C3. P\F\O\ remains high when PFI is above 1.3V and goes low when PFI is below 1.3V. When VCC is lower than VBATT, C3 is shut down and P\F\O\ is forced low.", 6 WDI (in) "Watchdog Input, WDI, is a three level input. Driving WDI either high or low for longer than the watchdog timeout period, forces both R\E\S\E\T\ and W\D\O\ low. Floating WDI disables the watchdog timer. The timer resets (See Datasheet)", 7 ~{RESET} (out), 8 VBATT (power) "Back-Up Battery Input. When VCC falls below VBATT, auxiliary power, connected to VBATT, is delivered to VOUT through PMOS switch, M2. If back-up battery or auxiliary power is not used, VBATT should be connected to GND."

## LTC690CS8#TR
designator U?
UL Recognized Battery Backup, 8-pin SOIC (S8-8), 0 to 70 degC, Tape and Reel; Manufacturer: Linear Technology; PartNumber: LTC690CS8#TR; Number of Supplies(#): 1; DatasheetVersion: Rev. F; PackageVersion: Rev. G, 03/2012; PackageReference: S8-8; PackageDescription: 8-Pin Plastic Small Outline (Narrow .150 Inch), Body 4.9 x 3.9 mm, Pitch 1.27 mm; Supplier 1: Digi-Key; Supplier Part Number 1: LTC690CS8TR-ND; Packing: Tape and Reel; RoHS: FALSE; Mounting Technology: Surface Mount; ComponentLink1Description: Manufacturer URL; ComponentLink1URL: http://www.linear.com/; ComponentLink2Description: Datasheet; ComponentLink2URL: http://cds.linear.com/docs/en/datasheet/690ff.pdf; ComponentLink3Description: Package Specification; ComponentLink3URL: http://cds.linear.com/docs/en/packaging/05081610_G_SO8.pdf
footprint LT-S8-8_N (SOIC, 8-Leads, Body 5x4mm, Pitch 1.27mm, IPC Medium Density)
footprint LT-S8-8_L (SOIC, 8-Leads, Body 5x4mm, Pitch 1.27mm, IPC High Density)
footprint LT-S8-8_M (SOIC, 8-Leads, Body 5x4mm, Pitch 1.27mm, IPC Low Density)
pins: 1 VOUT (power) "Voltage Output for Backed Up Memory. Bypass with a capacitor of 0.1uF or greater. During normal operation, VOUT obtains power from VCC through an NMOS power switch, M1, which can deliver up to 50mA and has a typical on (See Datasheet)", 2 VCC (power), 3 GND (power) "Ground pin.", 4 PFI (in) "Power Failure Input. PFI is the noninverting input to the power-fail comparator, C3. The inverting input is internally connected to a 1.3V reference. The power failure output remains high when PFI is above 1.3V and goes low (See Datasheet)", 5 ~{PFO} (out) "Power Failure Output from C3. P\F\O\ remains high when PFI is above 1.3V and goes low when PFI is below 1.3V. When VCC is lower than VBATT, C3 is shut down and P\F\O\ is forced low.", 6 WDI (in) "Watchdog Input, WDI, is a three level input. Driving WDI either high or low for longer than the watchdog timeout period, forces both R\E\S\E\T\ and W\D\O\ low. Floating WDI disables the watchdog timer. The timer resets (See Datasheet)", 7 ~{RESET} (out), 8 VBATT (power) "Back-Up Battery Input. When VCC falls below VBATT, auxiliary power, connected to VBATT, is delivered to VOUT through PMOS switch, M2. If back-up battery or auxiliary power is not used, VBATT should be connected to GND."

## LTC690CS8#TRPBF
designator U?
UL Recognized Battery Backup, 8-pin SOIC (S8-8), 0 to 70 degC, Pb-Free, Tape and Reel; Manufacturer: Linear Technology; PartNumber: LTC690CS8#TRPBF; Number of Supplies(#): 1; DatasheetVersion: Rev. F; PackageVersion: Rev. G, 03/2012; PackageReference: S8-8; PackageDescription: 8-Pin Plastic Small Outline (Narrow .150 Inch), Body 4.9 x 3.9 mm, Pitch 1.27 mm; Supplier 1: Digi-Key; Supplier Part Number 1: LTC690CS8#TRPBF-ND; Packing: Tape and Reel; RoHS: TRUE; Mounting Technology: Surface Mount; ComponentLink1Description: Manufacturer URL; ComponentLink1URL: http://www.linear.com/; ComponentLink2Description: Datasheet; ComponentLink2URL: http://cds.linear.com/docs/en/datasheet/690ff.pdf; ComponentLink3Description: Package Specification; ComponentLink3URL: http://cds.linear.com/docs/en/packaging/05081610_G_SO8.pdf
footprint LT-S8-8_N (SOIC, 8-Leads, Body 5x4mm, Pitch 1.27mm, IPC Medium Density)
footprint LT-S8-8_L (SOIC, 8-Leads, Body 5x4mm, Pitch 1.27mm, IPC High Density)
footprint LT-S8-8_M (SOIC, 8-Leads, Body 5x4mm, Pitch 1.27mm, IPC Low Density)
pins: 1 VOUT (power) "Voltage Output for Backed Up Memory. Bypass with a capacitor of 0.1uF or greater. During normal operation, VOUT obtains power from VCC through an NMOS power switch, M1, which can deliver up to 50mA and has a typical on (See Datasheet)", 2 VCC (power), 3 GND (power) "Ground pin.", 4 PFI (in) "Power Failure Input. PFI is the noninverting input to the power-fail comparator, C3. The inverting input is internally connected to a 1.3V reference. The power failure output remains high when PFI is above 1.3V and goes low (See Datasheet)", 5 ~{PFO} (out) "Power Failure Output from C3. P\F\O\ remains high when PFI is above 1.3V and goes low when PFI is below 1.3V. When VCC is lower than VBATT, C3 is shut down and P\F\O\ is forced low.", 6 WDI (in) "Watchdog Input, WDI, is a three level input. Driving WDI either high or low for longer than the watchdog timeout period, forces both R\E\S\E\T\ and W\D\O\ low. Floating WDI disables the watchdog timer. The timer resets (See Datasheet)", 7 ~{RESET} (out), 8 VBATT (power) "Back-Up Battery Input. When VCC falls below VBATT, auxiliary power, connected to VBATT, is delivered to VOUT through PMOS switch, M2. If back-up battery or auxiliary power is not used, VBATT should be connected to GND."

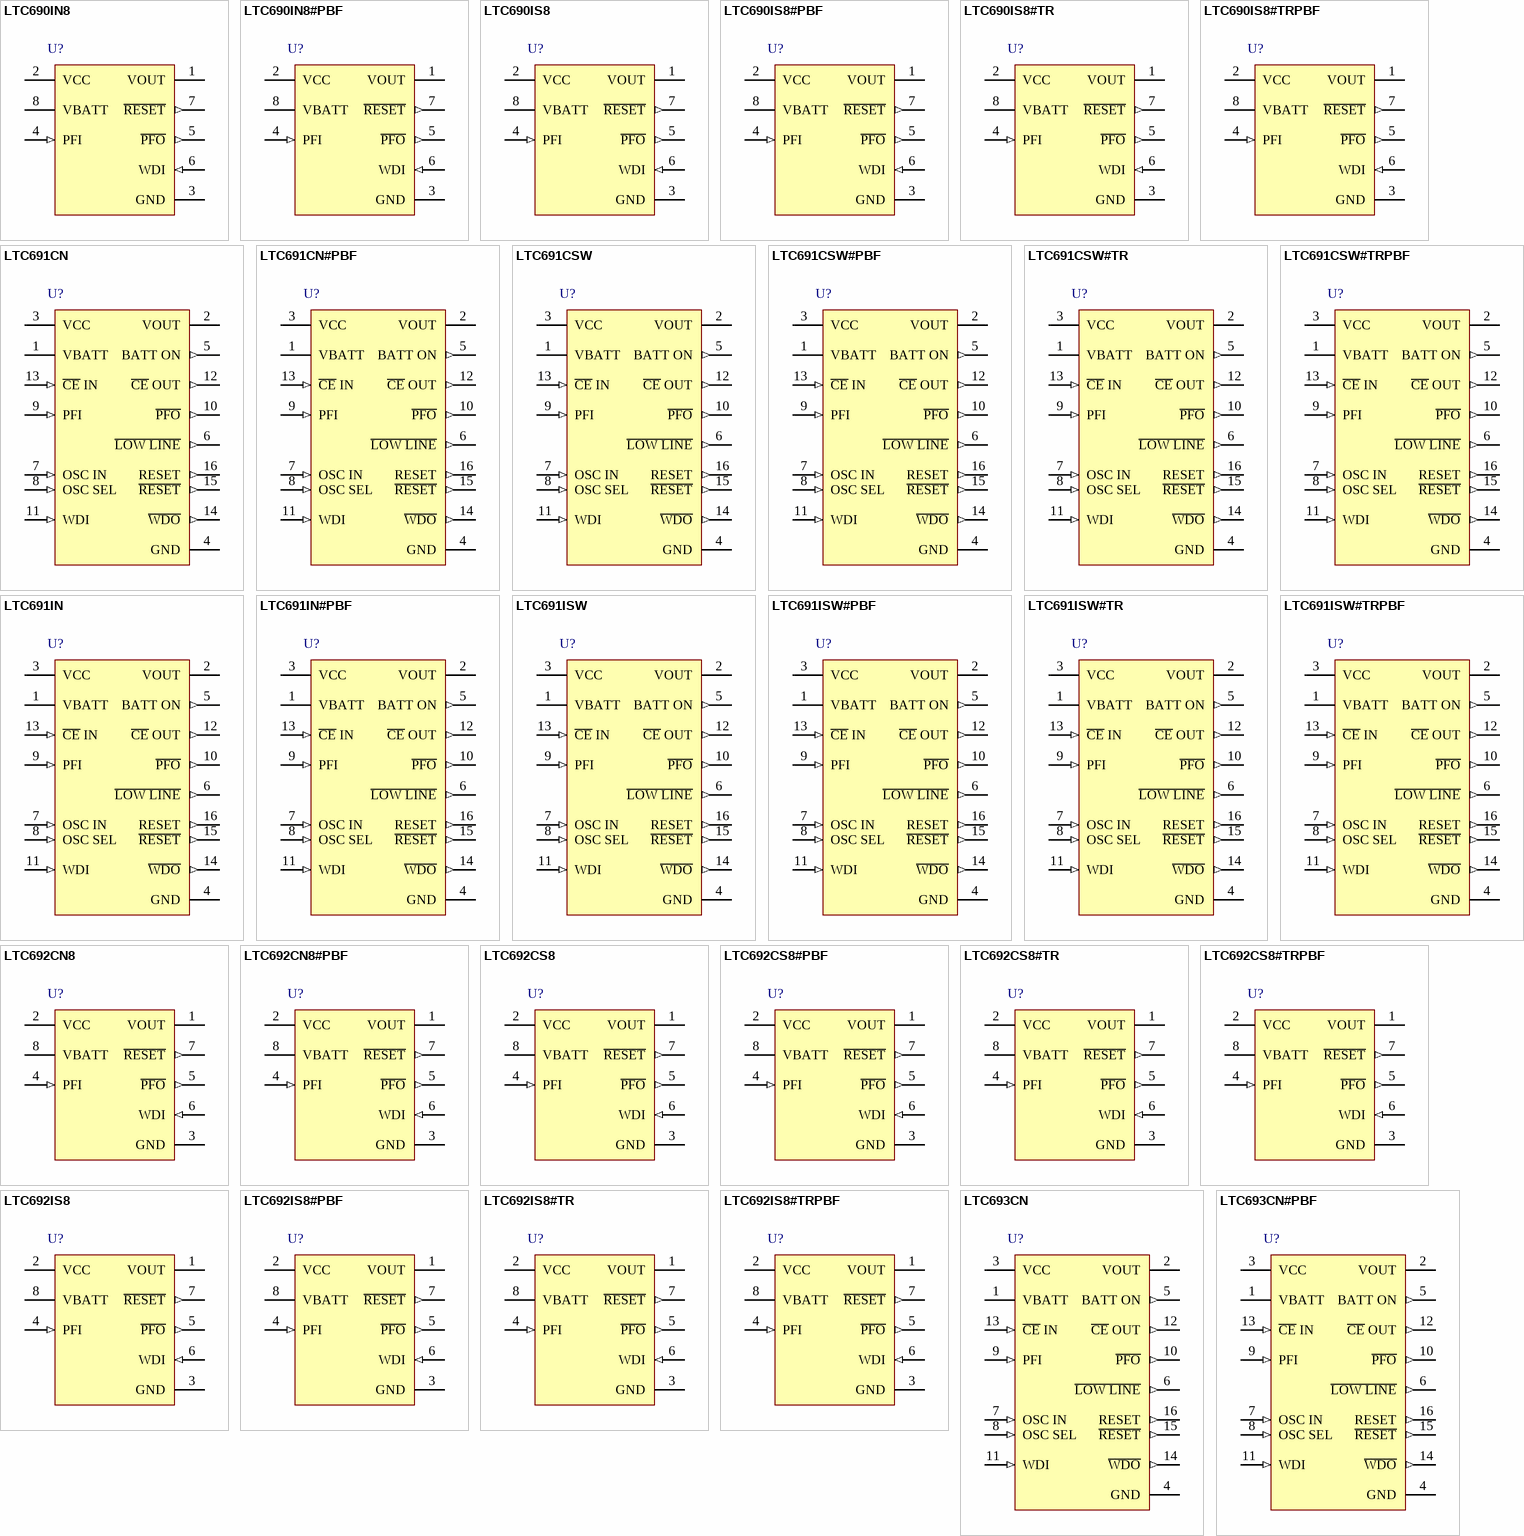
[diagram p1: symbols LTC690IN8 to LTC693CN#PBF]

## LTC690IN8
designator U?
UL Recognized Battery Backup, 8-pin DIP (N8-8), -40 to 85 degC; Manufacturer: Linear Technology; PartNumber: LTC690IN8; Number of Supplies(#): 1; DatasheetVersion: Rev. F; PackageVersion: Rev. I, 07/2011; PackageReference: N8-8; PackageDescription: 8-Pin PDIP, Body 10.16 x 6.48 mm, Pitch 2.54 mm; Supplier 1: Digi-Key; Supplier Part Number 1: LTC690IN8-ND; RoHS: FALSE; Mounting Technology: Through Hole; ComponentLink1Description: Manufacturer URL; ComponentLink1URL: http://www.linear.com/; ComponentLink2Description: Datasheet; ComponentLink2URL: http://cds.linear.com/docs/en/datasheet/690ff.pdf; ComponentLink3Description: Package Specification; ComponentLink3URL: http://www.linear.com/docs/en/packaging/05081510_I_N8.pdf
footprint LT-N8-8 (DIP, 8-Leads, Body 10.15x6.85mm, Pitch 2.54mm)
pins: 1 VOUT (power) "Voltage Output for Backed Up Memory. Bypass with a capacitor of 0.1uF or greater. During normal operation, VOUT obtains power from VCC through an NMOS power switch, M1, which can deliver up to 50mA and has a typical on (See Datasheet)", 2 VCC (power), 3 GND (power) "Ground pin.", 4 PFI (in) "Power Failure Input. PFI is the noninverting input to the power-fail comparator, C3. The inverting input is internally connected to a 1.3V reference. The power failure output remains high when PFI is above 1.3V and goes low (See Datasheet)", 5 ~{PFO} (out) "Power Failure Output from C3. P\F\O\ remains high when PFI is above 1.3V and goes low when PFI is below 1.3V. When VCC is lower than VBATT, C3 is shut down and P\F\O\ is forced low.", 6 WDI (in) "Watchdog Input, WDI, is a three level input. Driving WDI either high or low for longer than the watchdog timeout period, forces both R\E\S\E\T\ and W\D\O\ low. Floating WDI disables the watchdog timer. The timer resets (See Datasheet)", 7 ~{RESET} (out), 8 VBATT (power) "Back-Up Battery Input. When VCC falls below VBATT, auxiliary power, connected to VBATT, is delivered to VOUT through PMOS switch, M2. If back-up battery or auxiliary power is not used, VBATT should be connected to GND."